# Altium schematic symbol library Diode_Schottky_Sch.SchLib: 11 symbols
Pins are listed as number, name and electrical type; pins without a type are passive.

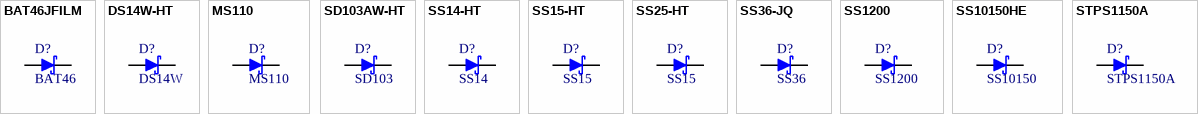
[diagram p0: symbols BAT46JFILM to STPS1150A]

## BAT46JFILM
designator D?, comment BAT46
150mA, 100V Small Signal Schottky Barrier Diode; Voltage: 100; ComponentLink1Description: Link; Current: 150mA; Package: SOD323
footprint SOD323 (SOD, 2-Leads, Body 1.25x2.50mm, IPC Medium Density)
pins: 1 A, 2 C

## DS14W-HT
designator D?, comment DS14W
1A 40V Schottky Diode; Voltage: 40; ComponentLink1Description: Link; ComponentLink1URL: https://ozdisan.com/power-semiconductors/diodes-diode-modules-and-rectifiers/schottky-diodes/DS14W-HT/468036; Current: 1A; Package: SOD123
footprint SOD-123 (SOD, 2-Leads, Body 1.55x3.70mm, IPC Medium Density)
pins: 1 A, 2 C

## MS110
designator D?
DIODE SCHOTTKY 1A 100V DO-214AC SMA; Current: 1A; Voltage: 100V; Package: DO214AC; ComponentLink1Description: Link; ComponentLink1URL: https://ozdisan.com/guc-yari-iletkenleri/diyotlar-modul-diyotlar-ve-dogrultucular/schottky-diyotlar/MS110R100001/476089
footprint DO214AC SMA (Molded Diode, 2-Leads, Body 4.30x2.60mm, IPC Medium Density)
pins: 1 A, 2 C

## SD103AW-HT
designator D?, comment SD103
350mA 50V Schottky Diode; Voltage: 40; ComponentLink1Description: Link; ComponentLink1URL: https://ozdisan.com/power-semiconductors/diodes-diode-modules-and-rectifiers/schottky-diodes/SD103AW-HT/468038; Current: 350mA; Package: SOD123
footprint SOD-123 (SOD, 2-Leads, Body 1.55x3.70mm, IPC Medium Density)
pins: 1 A, 2 C

## SS14-HT
designator D?, comment SS14
1A 40V Schottky Diode; Voltage: 40; ComponentLink1Description: Link; ComponentLink1URL: https://ozdisan.com/power-semiconductors/diodes-diode-modules-and-rectifiers/schottky-diodes/SS14-DO-214AC-HT/417219; Current: 1A; Package: DO214AC(SMA)
footprint DO214AC SMA (Molded Diode, 2-Leads, Body 4.30x2.60mm, IPC Medium Density)
pins: 1 A, 2 C

## SS15-HT
designator D?, comment SS15
1A 50V Schottky Diode; Voltage: 50; ComponentLink1Description: Link; ComponentLink1URL: https://ozdisan.com/guc-yari-iletkenleri/diyotlar-modul-diyotlar-ve-dogrultucular/schottky-diyotlar/SS15-HT/468035; Current: 1A; Package: DO214AC(SMA)
footprint DO214AC SMA (Molded Diode, 2-Leads, Body 4.30x2.60mm, IPC Medium Density)
pins: 1 A, 2 C

## SS25-HT
designator D?, comment SS15
DIODE SCHOTTKY 2A 50V DO214AA SMB; Voltage: 50; ComponentLink1Description: Link; ComponentLink1URL: *; Current: 2A; Package: DO214AA
footprint DO214AA SMB (Molded Diode, 2-Leads, Body 4.31x3.62mm, IPC Medium Density)
footprint DO214AA SMB - WIDE (Molded Diode, 2-Leads, Body 4.31x3.62mm, IPC Medium Density)
pins: 1 A, 2 C

## SS36-JQ
designator D?, comment SS36
DIODE SCHOTTKY 3A 60V DO-214AC SMA; Current: 3A; Voltage: 60V; Package: DO214AC; ComponentLink1Description: Link
footprint DO214AC SMA (Molded Diode, 2-Leads, Body 4.30x2.60mm, IPC Medium Density)
pins: 1 A, 2 C

## SS1200
designator D?
DIODE SCHOTTKY 1A 200V DO214AA SMB; Voltage: 200; ComponentLink1Description: Link; ComponentLink1URL: https://ozdisan.com/guc-yari-iletkenleri/diyotlar-modul-diyotlar-ve-dogrultucular/schottky-diyotlar/SS1200-DO214AC-HT/466386; Current: 1A; Package: DO214AA
footprint DO214AA SMB (Molded Diode, 2-Leads, Body 4.31x3.62mm, IPC Medium Density)
footprint DO214AA SMB - WIDE (Molded Diode, 2-Leads, Body 4.31x3.62mm, IPC Medium Density)
pins: 1 A, 2 C

## SS10150HE
designator D?, comment SS10150
1A 150V Schottky Diode; ComponentLink1Description: Link; ComponentLink1URL: https://ozdisan.com/guc-yari-iletkenleri/diyotlar-modul-diyotlar-ve-dogrultucular/schottky-diyotlar/SS10150HER100001/574637; Current: 1A; Voltage: 150V; Package: SOD123HE
footprint SOD123HE (SODFL, 2-Leads, Body 1.60x3.50mm, IPC Medium Density)
pins: 1 A, 2 C

## STPS1150A
designator D?
1A 100V Schottky Diode; Voltage: 150V; ComponentLink1Description: Link; ComponentLink1URL: https://ozdisan.com/power-semiconductors/diodes-diode-modules-and-rectifiers/schottky-diodes/STPS1150A/635664; Current: 1A; Package: DO214AC(SMA)
footprint DO214AC SMA (Molded Diode, 2-Leads, Body 4.30x2.60mm, IPC Medium Density)
pins: 1 A, 2 C